# EAGLE library part MAX4239 (library common)
The MAX4238/MAX4239 are low-noise, low-drift, ultrahigh precision amplifiers that offer near-zero DC offset and drift through the use of patented autocorrelating zeroing techniques. This method constantly measures and compensates the input offset, eliminating drift over time and temperature and the effect of 1/f noise. Both devices feature rail-to-rail outputs, operate from a single 2.7V to 5.5V supply, and consume only 600µA. An activelow shutdown mode decreases supply current to 0.1µA.
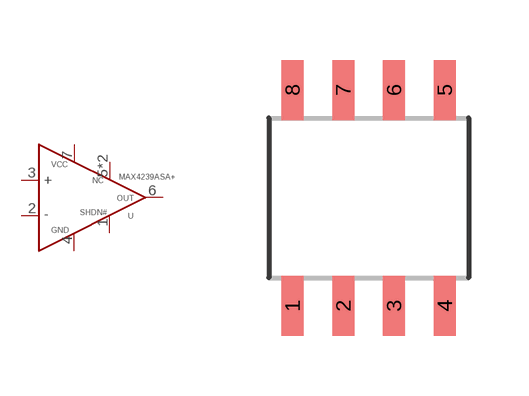
[diagram p33: symbol with the pads of SOIC-8; footprint SOIC-8]

Designator prefix U

## MAX4239  [SOIC-8]
1  SHDN#
2  -
3  +
4  GND
5  NC
6  OUT
7  VCC
8  NC

## Footprint SOIC-8 (pad centres in mm)
smd 0.55 x 1.5: 1 -1.905,-2.7; 2 -0.635,-2.7; 3 0.635,-2.7; 4 1.905,-2.7; 5 1.905,2.7; 6 0.635,2.7; 7 -0.635,2.7; 8 -1.905,2.7